# Altium schematic symbol library SCH - MICROCONTROLLER - ESP01.SchLib: 1 symbol
Pins are listed as number, name and electrical type; pins without a type are passive.

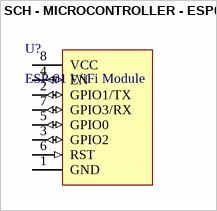
[diagram p0: symbol SCH - MICROCONTROLLER - ESP01]

## SCH - MICROCONTROLLER - ESP01
designator U?, comment ESP-01 WiFi Module
pins: 1 GND (power), 2 GPIO1/TX (io), 3 GPIO2 (io), 4 EN (io), 5 GPIO0 (io), 6 RST (in), 7 GPIO3/RX (io), 8 VCC (power)